# EAGLE library part GY-MODULE_BNO055 (library FaBo-ModulePin)
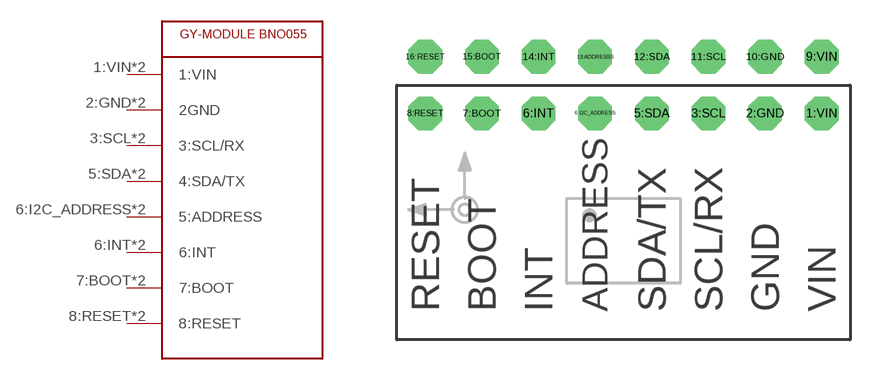
[diagram p1: symbol with the pads of GY-MODULE_BNO055; footprint GY-MODULE_BNO055]

Designator prefix -

## GY-MODULE_BNO055  [GY-MODULE_BNO055]
1:VIN  1:VIN
2:GND  2GND
3:SCL  3:SCL/RX
5:SDA  4:SDA/TX
6:I2C_ADDRESS  5:ADDRESS
6:INT  6:INT
7:BOOT  7:BOOT
8:RESET  8:RESET
9:VIN  1:VIN
10:GND  2GND
11:SCL  3:SCL/RX
12:SDA  4:SDA/TX
13:ADDRESSS  5:ADDRESS
14:INT  6:INT
15:BOOT  7:BOOT
16:RESET  8:RESET

## Footprint GY-MODULE_BNO055 (pad centres in mm)
THROUGH-HOLE .025" SQ POST HEADER Source: Samtec TSW.pdf
drill 1 pad 1.5 octagon: 1:VIN 8.89,3.81; 2:GND 6.35,3.81; 3:SCL 3.81,3.81; 5:SDA 1.27,3.81; 6:I2C_ADDRESS -1.27,3.81; 6:INT -3.81,3.81; 7:BOOT -6.35,3.81; 8:RESET -8.89,3.81; 9:VIN 8.89,6.35; 10:GND 6.35,6.35; 11:SCL 3.81,6.35; 12:SDA 1.27,6.35; 13:ADDRESSS -1.27,6.35; 14:INT -3.81,6.35; 15:BOOT -6.35,6.35; 16:RESET -8.89,6.35